# EAGLE library part DISP_TFT18 (library dp_devices)
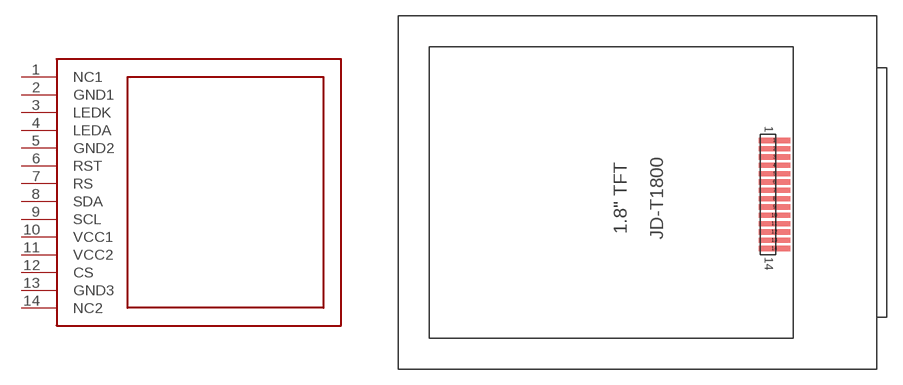
[diagram p108: symbol with the pads of TFT18; footprint TFT18]

Designator prefix -

## DISP_TFT18  [TFT18]
1  NC1
2  GND1
3  LEDK
4  LEDA
5  GND2
6  RST
7  RS
8  SDA
9  SCL
10  VCC1
11  VCC2
12  CS
13  GND3
14  NC2

## Footprint TFT18 (pad centres in mm)
smd 3 x 0.5: 1 13.2,5; 2 13.2,4.2; 3 13.2,3.4; 4 13.2,2.6; 5 13.2,1.8; 6 13.2,1; 7 13.2,0.2; 8 13.2,-0.6; 9 13.2,-1.4; 10 13.2,-2.2; 11 13.2,-3; 12 13.2,-3.8; 13 13.2,-4.6; 14 13.2,-5.4